# EAGLE library part C_1720027_A (library con-tyco)
Serial ATA & Serial Attached SCSI Source: http://catalog.tycoelectronics.com .. C_1720027_A.pdf
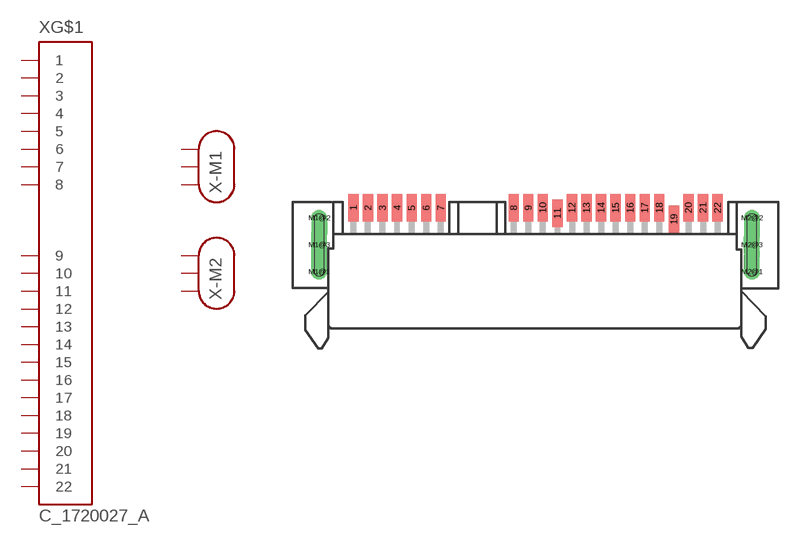
[diagram p0: symbol with the pads of C_1720027_A; footprint C_1720027_A]

Designator prefix X; gates G$1=SERIAL_ATA-SERIAL_ATTACHED_SCSI -M1=MECH-PAD3 -M2=MECH-PAD3

## C_1720027_A  [C_1720027_A]
1  G$1:1  pas
2  G$1:2  pas
3  G$1:3  pas
4  G$1:4  pas
5  G$1:5  pas
6  G$1:6  pas
7  G$1:7  pas
8  G$1:8  pas
9  G$1:9  pas
10  G$1:10  pas
11  G$1:11  pas
12  G$1:12  pas
13  G$1:13  pas
14  G$1:14  pas
15  G$1:15  pas
16  G$1:16  pas
17  G$1:17  pas
18  G$1:18  pas
19  G$1:19  pas
20  G$1:20  pas
21  G$1:21  pas
22  G$1:22  pas
M1@1  -M1:M  pas
M1@2  -M1:M  pas
M1@3  -M1:M  pas
M2@1  -M2:M  pas
M2@2  -M2:M  pas
M2@3  -M2:M  pas

## Footprint C_1720027_A (pad centres in mm)
Serial ATA & Serial Attached SCSI Source: http://catalog.tycoelectronics.com .. C_1720027_A.pdf
smd 0.9 x 2.4: 1 -15.88,3.24; 2 -14.61,3.24; 3 -13.34,3.24; 4 -12.07,3.24; 5 -10.8,3.24; 6 -9.53,3.24; 7 -8.26,3.24; 8 -1.9,3.24; 9 -0.63,3.24; 10 0.64,3.24; 11 1.91,2.74; 12 3.18,3.24; 13 4.45,3.24; 14 5.72,3.24; 15 6.99,3.24; 16 8.26,3.24; 17 9.53,3.24; 18 10.8,3.24; 19 12.07,2.24; 20 13.34,3.24; 21 14.61,3.24; 22 15.88,3.24
drill 0.8 pad 1.4 offset: M1@1 -18.87,-2.35; M1@2 -18.87,2.35; M2@1 18.87,-2.35; M2@2 18.87,2.35
drill 0.8 pad 1.4 long: M1@3 -18.87,0; M2@3 18.87,0